# Altium schematic symbol library SYM-Passive.SchLib: 208 symbols (part 3 of 9)
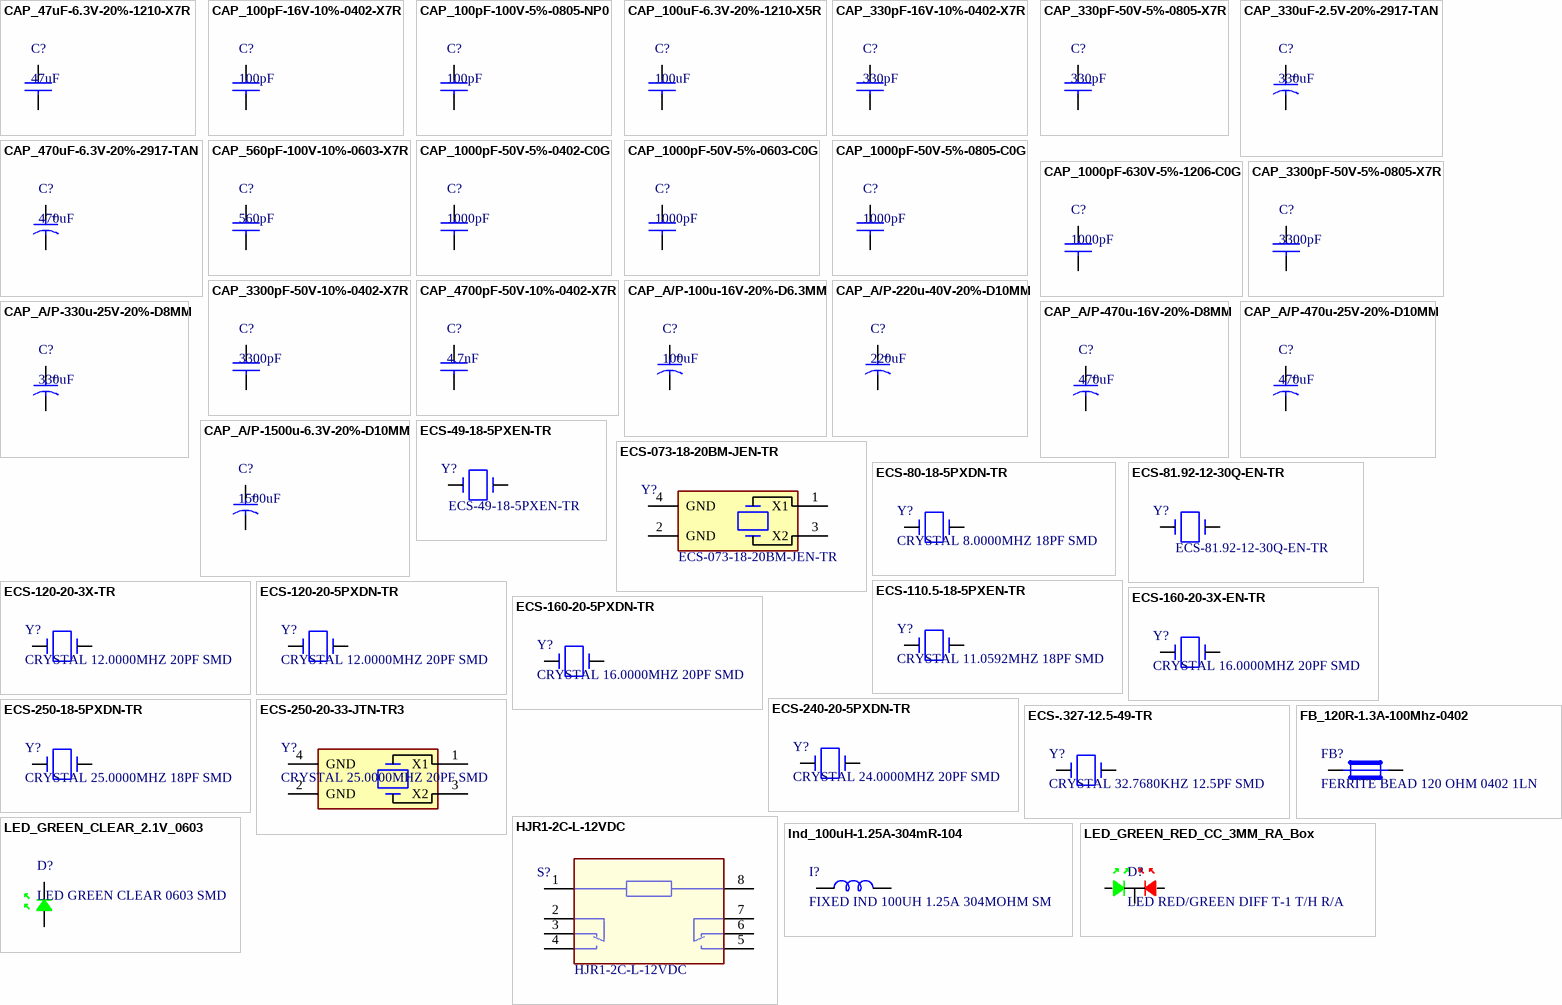
[diagram p7: symbols CAP_47uF-6.3V-20%-1210-X7R to LED_GREEN_RED_CC_3MM_RA_Box]

## CAP_3300pF-50V-5%-0805-X7R
designator C?, comment 3300pF
Cap Ceramic 0.0033uF 50V X7R 5% SMD 0805 125°C Paper T/R; Manufacturer: Samsung; Manufacturer Part Number: CL21B332JBANNNC; Capacitance: 3.3nF; Supplier 1: Digi-Key; RoHS: Yes; Category: Ceramic Capacitors; Mount: Surface Mount; Case/Package: 0805; Case Code (Metric): 2012; Case Code (Imperial): 0805; Min Operating Temperature: -55°C; Max Operating Temperature: 125°C; Tolerance: 5%; Packaging: Tape and Reel; Package Quantity: 1; Voltage Rating: 50V; Dielectric: X7R; Voltage Rating (DC): 50V; Series: CL; Construction: Flat; Length: 2mm; Width: 0.049inch; Height: 0.65mm; Thickness: 0.03inch; Depth: 1.25mm; Radiation Hardening: No; Lead Free: Lead Free; RoHS Compliant: Yes; ComponentLink1URL: https://datasheet.ciiva.com/25770/cl21b332jbannnc-25770088.pdf?src-supplier=Digi-Key; ComponentLink1Description: https://datasheet.ciiva.com/25770/cl21b332jbannnc-25770088.pdf?src-supplier=Digi-Key; Supplier Part Number 1: 1276-2501-1-ND
footprint CAPC2012X14N - 0805 (Chip Capacitor, 2-Leads, Body 2/00x1/25mm, IPC Medium Density)
footprint CAPC2012X14M - 0805 (Chip Capacitor, 2-Leads, Body 2/00x1/25mm, IPC Low Density)
footprint CAPC2012X14L - 0805 (Chip Capacitor, 2-Leads, Body 2/00x1/25mm, IPC High Density)
pins: 1, 2

## CAP_3300pF-50V-10%-0402-X7R
designator C?, comment 3300pF
Ceramic capacitor SMD-0402 3, 3nF /50V X7R# K +-10%, Samsung, RoHS; Manufacturer Part Number: CL05B332KB5NNNC; Capacitance: 3.3nF; Tolerance: 10%; Voltage Rating: 50V; Dielectric: X7R; Supplier 1: Digi-Key; Manufacturer: Samsung; RoHS: Yes; Category: Ceramic Capacitors; Pricing 1: 1=0/10000, 10=0/01500, 50=0/00820, 100=0/00670, 500=0/00482, 1000=0/00378, 2500=0/00344, 5000=0/00316 (USD); Mount: Surface Mount; Case/Package: 0402; Case Code (Metric): 1005; Case Code (Imperial): 0402; Material: Ceramic; Contact Plating: Tin; Min Operating Temperature: -55°C; Max Operating Temperature: 125°C; Package Quantity: 1; Packaging: Tape and Reel; Voltage: 50V; Voltage Rating (DC): 50V; Series: CL; Construction: Flat; Length: 1mm; Width: 0.02inch; Height: 0.5mm; Thickness: 0.022inch; Depth: 0.5mm; Radiation Hardening: No; Lead Free: Lead Free; RoHS Compliant: Yes; ComponentLink1URL: https://datasheet.ciiva.com/16396/cl05b332kb5nnnc-16396965.pdf?src-supplier=Future+Electronics; ComponentLink1Description: https://datasheet.ciiva.com/16396/cl05b332kb5nnnc-16396965.pdf?src-supplier=Future+Electronics; ComponentLink2URL: https://datasheet.ciiva.com/15195/getdatasheetpartid-358613-15195646.pdf?src-supplier=Verical; ComponentLink2Description: https://datasheet.ciiva.com/15195/getdatasheetpartid-358613-15195646.pdf?src-supplier=Verical; ComponentLink3URL: https://datasheet.ciiva.com/29198/458961-da-01-en-vs-kondensator-0402-29198316.pdf?src-supplier=Conrad; ComponentLink3Description: https://datasheet.ciiva.com/29198/458961-da-01-en-vs-kondensator-0402-29198316.pdf?src-supplier=Conrad; Supplier Part Number 1: 1276-1552-1-ND
footprint CAPC1005X07N - 0402 (Chip Capacitor, 2-Leads, Body 1/00x0/50mm, IPC Medium Density)
footprint CAPC1005X07M - 0402 (Chip Capacitor, 2-Leads, Body 1/00x0/50mm, IPC Low Density)
footprint CAPC1005X07L - 0402 (Chip Capacitor, 2-Leads, Body 1/00x0/50mm, IPC High Density)
pins: 1, 2

## CAP_4700pF-50V-10%-0402-X7R
designator C?, comment 4.7nF
Ceramic capacitor SMD-0402 4, 7nF /50V X7R# K +-10%, Samsung, RoHS; Manufacturer Part Number: CL05B472KB5NNNC; Tolerance: 10%; Voltage Rating: 50V; Dielectric: X7R; Supplier 1: Digi-Key; Manufacturer: Samsung; RoHS: Yes; Category: Ceramic Capacitors; Stock 1: 117737; Pricing 1: 1=0/10000, 10=0/02800, 50=0/01520, 100=0/01250, 500=0/00890, 1000=0/00700, 2500=0/00636, 5000=0/00585 (USD); Mount: Surface Mount; Case/Package: 0402; Case Code (Metric): 1005; Case Code (Imperial): 0402; Material: Ceramic; Min Operating Temperature: -55°C; Max Operating Temperature: 125°C; Package Quantity: 10000; Packaging: Tape and Reel; Capacitance: 4.7nF; Voltage: 50V; Voltage Rating (DC): 50V; Series: CL; Construction: Flat; Length: 1mm; Width: 0.02inch; Height: 0.5mm; Thickness: 0.022inch; Depth: 0.5mm; Radiation Hardening: No; Lead Free: Lead Free; RoHS Compliant: Yes; ComponentLink1URL: https://datasheet.ciiva.com/16199/cl05b472kb5nnnc-16199841.pdf?src-supplier=Future+Electronics; ComponentLink1Description: https://datasheet.ciiva.com/16199/cl05b472kb5nnnc-16199841.pdf?src-supplier=Future+Electronics; ComponentLink2URL: https://datasheet.ciiva.com/15195/getdatasheetpartid-359685-15195651.pdf?src-supplier=Verical; ComponentLink2Description: https://datasheet.ciiva.com/15195/getdatasheetpartid-359685-15195651.pdf?src-supplier=Verical; ComponentLink3URL: https://datasheet.ciiva.com/29198/458899-da-01-en-vs-kondensator-0402-29198308.pdf?src-supplier=Conrad; ComponentLink3Description: https://datasheet.ciiva.com/29198/458899-da-01-en-vs-kondensator-0402-29198308.pdf?src-supplier=Conrad; ComponentLink4URL: https://datasheet.ciiva.com/26309/mlcc-catalogdownload2013-eng-26309029.pdf?src-supplier=Distrelec; ComponentLink4Description: https://datasheet.ciiva.com/26309/mlcc-catalogdownload2013-eng-26309029.pdf?src-supplier=Distrelec; Supplier Part Number 1: 1276-1125-1-ND
footprint CAPC1005X07N - 0402 (Chip Capacitor, 2-Leads, Body 1/00x0/50mm, IPC Medium Density)
footprint CAPC1005X07M - 0402 (Chip Capacitor, 2-Leads, Body 1/00x0/50mm, IPC Low Density)
footprint CAPC1005X07L - 0402 (Chip Capacitor, 2-Leads, Body 1/00x0/50mm, IPC High Density)
pins: 1, 2

## CAP_A/P-100u-16V-20%-D6.3MM
designator C?, comment 100uF
Cap Aluminum Polymer 100uF 16VDC 20% (6.3 X 5.7mm) SMD 0.025 Ohm 2500mA 2000h 105C T/R; Manufacturer: KEMET; Manufacturer Part Number: A765EB107M1CLAE025; Voltage Rating: 16V; Life (Hours): 2000Hour; ESR (Equivalent Series Resistance): 25mR; Supplier 1: Digi-Key; RoHS: Yes; Category: Polymer Capacitors; Stock 1: 1455; Pricing 1: 1=0/71000, 10=0/52500, 50=0/42020, 100=0/36020, 500=0/28514 (USD); Case/Package: Radial; Min Operating Temperature: -55°C; Max Operating Temperature: 105°C; Capacitance: 100uF; Packaging: Cut Tape; Tolerance: 20%; Voltage Rating (DC): 16V; Diameter: 6.3mm; Height: 5.7mm; REACH SVHC: No SVHC; RoHS Compliant: Yes; ComponentLink1URL: https://api.kemet.com/component-edge/download/datasheet/A765EB107M1CLAE025.pdf?src-supplier=Digi-Key; ComponentLink1Description: https://api.kemet.com/component-edge/download/datasheet/A765EB107M1CLAE025.pdf?src-supplier=Digi-Key; ComponentLink2URL: http://www.kemet.com/docfinder?Partnumber=A765EB107M1CLAE025&src-supplier=Digi-Key; ComponentLink2Description: http://www.kemet.com/docfinder?Partnumber=A765EB107M1CLAE025&src-supplier=Digi-Key; ComponentLink3URL: http://www.farnell.com/datasheets/2095663.pdf?src-supplier=Element14; ComponentLink3Description: http://www.farnell.com/datasheets/2095663.pdf?src-supplier=Element14; Supplier Part Number 1: 399-13672-1-ND
footprint CAPAE7266X80N (Aluminum Electrolytic Capacitor, Body 6/65x6/65x8/00mm, IPC Medium Density)
pins: A 2, C 1
text: +

## CAP_A/P-220u-40V-20%-D10MM
designator C?, comment 220uF
Cap Aluminum Polymer 220uF 40V 20% Solder Cylindrical 22m Ohm 2200mA 2000 hr 125°C T/R; Manufacturer: KEMET; Manufacturer Part Number: A768MS227M1GLAE022; Supplier 1: Digi-Key; RoHS: Yes; Category: Polymer Capacitors; Stock 1: 2032; Pricing 1: 1=0/97000, 10=0/73900, 50=0/61420, 100=0/52890 (USD); Supplier Part Number 1: 399-A768MS227M1GLAE022CT-ND
footprint CAPAE114104X102N (Aluminum Electrolytic Capacitor, Body 10/45x10/45x10/20mm, IPC Medium Density)
pins: A 2, C 1
text: +

## CAP_A/P-330u-25V-20%-D8MM
designator C?, comment 330uF
Cap Aluminum Polymer 330uF 25V 20% Solder Cylindrical 19m Ohm 2325mA 2000 hr 125°C T/R; Manufacturer: KEMET; Manufacturer Part Number: A768KS337M1ELAE019; Supplier 1: Digi-Key; Category: Polymer Capacitors; Pricing 1: 1=0/97000, 10=0/71700, 50=0/57380, 100=0/49180 (USD); Supplier Part Number 1: 399-A768KS337M1ELAE019CT-ND
footprint CAPAE9283X102N (Aluminum Electrolytic Capacitor, Body 8/30x8/30x10/20mm, IPC Medium Density)
pins: A 2, C 1
text: +

## CAP_A/P-470u-16V-20%-D8MM
designator C?, comment 470uF
Cap Alum Poly 470UF 20% 16V SMD; Manufacturer: KEMET; Manufacturer Part Number: A768KS477M1CLAE017; Supplier 1: Digi-Key; RoHS: Yes; Category: Polymer Capacitors; Stock 1: 3844; Pricing 1: 1=0/95000, 10=0/72600, 50=0/60300, 100=0/51920 (USD); Supplier Part Number 1: 399-A768KS477M1CLAE017CT-ND
footprint CAPAE9283X102N (Aluminum Electrolytic Capacitor, Body 8/30x8/30x10/20mm, IPC Medium Density)
pins: A 2, C 1
text: +

## CAP_A/P-470u-25V-20%-D10MM
designator C?, comment 470uF
Polymer Capacitors Rohs Compliant: Yes; Manufacturer: KEMET; Manufacturer Part Number: A768MS477M1ELAE017; Supplier 1: Digi-Key; Category: Polymer Capacitors; Stock 1: 357; Pricing 1: 1=0/97000, 10=0/73500, 50=0/61040, 100=0/52570 (USD); Supplier Part Number 1: 399-A768MS477M1ELAE017CT-ND
footprint CAPAE114104X102N (Aluminum Electrolytic Capacitor, Body 10/45x10/45x10/20mm, IPC Medium Density)
pins: A 2, C 1
text: +

## CAP_A/P-1500u-6.3V-20%-D10MM
designator C?, comment 1500uF
Cap Aluminum Polymer 1500uF 6.3VDC 20% (10 X 12.6mm) SMD 0.01 Ohm 4100mA 2000h 105C T/R; Manufacturer: KEMET; Manufacturer Part Number: A765MU158M0JLAE010; Capacitance: 1.5mF; Voltage Rating: 6.3V; Life (Hours): 2000Hour; ESR (Equivalent Series Resistance): 10mR; Supplier 1: Digi-Key; RoHS: Yes; Category: Polymer Capacitors; Pricing 1: 1=1/19000, 10=0/94000, 50=0/81500, 100=0/70540 (USD); Case/Package: Radial; Min Operating Temperature: -55°C; Max Operating Temperature: 105°C; Packaging: Cut Tape; Tolerance: 20%; Voltage Rating (DC): 6.3V; Diameter: 10mm; Height: 12.6mm; REACH SVHC: No SVHC; RoHS Compliant: Yes; ComponentLink1URL: http://www.kemet.com/docfinder?Partnumber=A765MU158M0JLAE010&src-supplier=Digi-Key; ComponentLink1Description: http://www.kemet.com/docfinder?Partnumber=A765MU158M0JLAE010&src-supplier=Digi-Key; ComponentLink2URL: http://www.farnell.com/datasheets/2095656.pdf?src-supplier=Element14; ComponentLink2Description: http://www.farnell.com/datasheets/2095656.pdf?src-supplier=Element14; Supplier Part Number 1: 399-13688-1-ND
footprint CAPAE114104X102N (Aluminum Electrolytic Capacitor, Body 10/45x10/45x10/20mm, IPC Medium Density)
pins: A 2, C 1
text: +

## ECS-49-18-5PXEN-TR
designator Y?, comment Manufacturer Part Number: ECS-49-18-5PXEN-TR  (hidden comment: CRYSTAL 4.9152MHZ 18PF SMD)
Crystal 4.9152MHz ±30ppm (Tol) ±50ppm (Stability) 18pF FUND 150Ohm 2-Pin HC-49/USX SMD T/R; Manufacturer: ECS International; ESR (Equivalent Series Resistance): 150R; Supplier 1: Digi-Key; RoHS: Yes; Category: Crystals; Stock 1: 1648; Pricing 1: 1=0/70000, 10=0/58100, 50=0/52260, 100=0/46460, 500=0/44136 (USD); Mount: Surface Mount; Min Operating Temperature: -40°C; Max Operating Temperature: 85°C; Package Quantity: 1000; Frequency: 4.9152MHz; Load Capacitance: 18pF; Packaging: Tape and Reel; Tolerance: 30ppm; Frequency Tolerance: 30ppm; Frequency Stability: 50ppm; Termination: SMD/SMT; Series: CSM-7X; Length: 0.449inch; Width: 4.8mm; Height: 0.169inch; RoHS Compliant: Yes; ComponentLink1URL: https://datasheet.ciiva.com/857/csm-7x-857847.pdf?src-supplier=Digi-Key; ComponentLink1Description: https://datasheet.ciiva.com/857/csm-7x-857847.pdf?src-supplier=Digi-Key; ComponentLink2URL: https://datasheet.ciiva.com/857/csm-7x-857848.pdf?src-supplier=Digi-Key; ComponentLink2Description: https://datasheet.ciiva.com/857/csm-7x-857848.pdf?src-supplier=Digi-Key; ComponentLink3URL: https://datasheet.ciiva.com/857/csm-7x-857849.pdf?src-supplier=Digi-Key; ComponentLink3Description: https://datasheet.ciiva.com/857/csm-7x-857849.pdf?src-supplier=Digi-Key; Supplier Part Number 1: XC1682CT-ND
footprint OSC12745X40N - SMD (SMD Crystal Body 11/55x4/50x4/00mm, IPC Medium Density)
pins: 1, 2

## ECS-073-18-20BM-JEN-TR
designator Y?, comment Manufacturer Part Number: ECS-073-18-20BM-JEN-TR  (hidden comment: CRYSTAL 7.3728MHZ 18PF SMD)
Crystal 7.3728MHz ±20ppm (Tol) ±50ppm (Stability) 18pF FUND 70Ohm 4-Pin Mini-CSMD T/R; Manufacturer: ECS International; Supplier 1: Digi-Key; RoHS: Yes; Stock 1: 32174; Pricing 1: 1=1/36000, 10=1/30300, 50=1/27260, 100=1/09080, 500=1/06050 (USD); RoHS Compliant: No; Supplier Part Number 1: XC2350CT-ND
footprint LCC165P700X500X130-4N (LCC, 4-Pins, Body 7/00x5/00mmx1/30mm, Pitch 2/54mm, IPC Medium Density)
pins: 1 X1, 2 GND (power), 3 X2, 4 GND (power)

## ECS-80-18-5PXDN-TR
designator Y?, comment CRYSTAL 8.0000MHZ 18PF SMD
Crystal 8MHz ±30ppm (Tol) ±100ppm (Stability) 18pF FUND 60Ohm 2-Pin SMD T/R; Manufacturer: ECS International; Manufacturer Part Number: ECS-80-18-5PXDN-TR; ESR (Equivalent Series Resistance): 60R; Supplier 1: Digi-Key; RoHS: Yes; Category: Crystals; Stock 1: 29421; Pricing 1: 1=0/61000, 10=0/50500, 50=0/45440, 100=0/40400, 500=0/38380 (USD); Mount: Surface Mount; Min Operating Temperature: -40°C; Max Operating Temperature: 85°C; Package Quantity: 1000; Frequency: 8MHz; Load Capacitance: 18pF; Packaging: Tape and Reel; Tolerance: 30ppm; Frequency Tolerance: 30ppm; Frequency Stability: 100ppm; Termination: SMD/SMT; Series: CSM-7X-DN; Length: 0.449inch; Width: 4.8mm; Height: 0.169inch; Lead Free: Lead Free; RoHS Compliant: Yes; ComponentLink1URL: https://datasheet.ciiva.com/852/csm-7x-dn-852822.pdf?src-supplier=Digi-Key; ComponentLink1Description: https://datasheet.ciiva.com/852/csm-7x-dn-852822.pdf?src-supplier=Digi-Key; ComponentLink2URL: https://datasheet.ciiva.com/852/csm-7x-dn-852823.pdf?src-supplier=Digi-Key; ComponentLink2Description: https://datasheet.ciiva.com/852/csm-7x-dn-852823.pdf?src-supplier=Digi-Key; ComponentLink3URL: https://datasheet.ciiva.com/852/csm-7x-dn-852824.pdf?src-supplier=Digi-Key; ComponentLink3Description: https://datasheet.ciiva.com/852/csm-7x-dn-852824.pdf?src-supplier=Digi-Key; Supplier Part Number 1: XC1297CT-ND
footprint OSC12745X40N - SMD (SMD Crystal Body 11/55x4/50x4/00mm, IPC Medium Density)
pins: 1, 2

## ECS-81.92-12-30Q-EN-TR
designator Y?, comment Manufacturer Part Number: ECS-81.92-12-30Q-EN-TR  (hidden comment: CRYSTAL 8.1920MHZ 12PF SMDCRYSTAL 8.1920MHZ 12PF SMD)
Crystal 8.192MHz ±30ppm (Tol) ±50ppm (Stability) 12pF FUND 100Ohm Automotive 2-Pin Mini-CSMD T/R; Manufacturer: ECS International; Supplier 1: Digi-Key; Stock 1: 26065; Pricing 1: 1=0/92000, 10=0/81300, 50=0/76000, 100=0/67160, 500=0/63630 (USD); ComponentLink1URL: https://datasheet.octopart.com/ECS-81.92-12-30Q-EN-TR-ECS-International-datasheet-152600926.pdf?src-supplier=Master+Electronics; ComponentLink1Description: https://datasheet.octopart.com/ECS-81.92-12-30Q-EN-TR-ECS-International-datasheet-152600926.pdf?src-supplier=Master+Electronics; Supplier Part Number 1: XC3145CT-ND
footprint DFN370P500X110-2N (DFN, 2-Leads, Body 3/20x5/00mm, Pitch 3/70mm, IPC Medium Density)
pins: 1, 2

## ECS-110.5-18-5PXEN-TR
designator Y?, comment CRYSTAL 11.0592MHZ 18PF SMD
Crystal 11.0592MHz ±30ppm (Tol) ±50ppm (Stability) 18pF FUND 50Ohm 2-Pin HC-49/USX SMD T/R; Manufacturer: ECS International; Manufacturer Part Number: ECS-110.5-18-5PXEN-TR; ESR (Equivalent Series Resistance): 50R; Supplier 1: Digi-Key; RoHS: Yes; Category: Crystals; Stock 1: 1827; Pricing 1: 1=0/70000, 10=0/58100, 50=0/52260, 100=0/46460, 500=0/44136 (USD); Mount: Surface Mount; Min Operating Temperature: -40°C; Max Operating Temperature: 85°C; Package Quantity: 1000; Frequency: 11.0592MHz; Frequency Tolerance: 30ppm; Load Capacitance: 18pF; Packaging: Tape and Reel; Tolerance: 30ppm; Frequency Stability: 50ppm; Termination: SMD/SMT; Length: 0.449inch; Width: 0.189inch; Height: 0.169inch; ComponentLink1URL: https://datasheet.ciiva.com/852/csm-7x-852570.pdf?src-supplier=Digi-Key; ComponentLink1Description: https://datasheet.ciiva.com/852/csm-7x-852570.pdf?src-supplier=Digi-Key; ComponentLink2URL: https://datasheet.ciiva.com/852/csm-7x-852571.pdf?src-supplier=Digi-Key; ComponentLink2Description: https://datasheet.ciiva.com/852/csm-7x-852571.pdf?src-supplier=Digi-Key; ComponentLink3URL: https://datasheet.ciiva.com/852/csm-7x-852572.pdf?src-supplier=Digi-Key; ComponentLink3Description: https://datasheet.ciiva.com/852/csm-7x-852572.pdf?src-supplier=Digi-Key; Supplier Part Number 1: XC1691CT-ND
footprint OSC12745X40N - SMD (SMD Crystal Body 11/55x4/50x4/00mm, IPC Medium Density)
pins: 1, 2

## ECS-120-20-3X-TR
designator Y?, comment CRYSTAL 12.0000MHZ 20PF SMD
Crystal 12MHz ±30ppm (Tol) ±50ppm (Stability) 20pF FUND 60Ohm 2-Pin HC-49/USX SMD T/R; Manufacturer: ECS International; Manufacturer Part Number: ECS-120-20-3X-TR; ESR (Equivalent Series Resistance): 60R; Supplier 1: Digi-Key; RoHS: Yes; Category: Crystals; Stock 1: 25654; Pricing 1: 1=0/34000, 10=0/28800, 50=0/25880, 100=0/23000, 500=0/21850, 1000=0/18400 (USD); Mount: Surface Mount; Number of Pins: 2; Min Operating Temperature: -10°C; Max Operating Temperature: 70°C; Package Quantity: 1; Frequency: 12MHz; Load Capacitance: 20pF; Packaging: Tape and Reel; Tolerance: 30ppm; Frequency Tolerance: 30ppm; Frequency Stability: 50ppm; Termination: SMD/SMT; Length: 0.276inch; Width: 4.1mm; Height: 0.091inch; Lead Free: Lead Free; ComponentLink1URL: https://datasheet.ciiva.com/852/csm-3x-852332.pdf?src-supplier=Digi-Key; ComponentLink1Description: https://datasheet.ciiva.com/852/csm-3x-852332.pdf?src-supplier=Digi-Key; ComponentLink2URL: https://datasheet.ciiva.com/852/csm-3x-852333.pdf?src-supplier=Digi-Key; ComponentLink2Description: https://datasheet.ciiva.com/852/csm-3x-852333.pdf?src-supplier=Digi-Key; ComponentLink3URL: https://datasheet.ciiva.com/852/csm-3x-852331.pdf?src-supplier=Digi-Key; ComponentLink3Description: https://datasheet.ciiva.com/852/csm-3x-852331.pdf?src-supplier=Digi-Key; Supplier Part Number 1: XC1770CT-ND
footprint OSC76X40N - SMD
pins: 1, 2

## ECS-120-20-5PXDN-TR
designator Y?, comment CRYSTAL 12.0000MHZ 20PF SMD
Crystal 12MHz ±30ppm (Tol) ±100ppm (Stability) 20pF FUND 50Ohm 2-Pin SMD T/R; Manufacturer: ECS International; Manufacturer Part Number: ECS-120-20-5PXDN-TR; ESR (Equivalent Series Resistance): 50R; Supplier 1: Digi-Key; RoHS: Yes; Category: Crystals; Stock 1: 118838; Pricing 1: 1=0/61000, 10=0/50500, 50=0/45440, 100=0/40400, 500=0/38380 (USD); Mount: Surface Mount; Min Operating Temperature: -40°C; Max Operating Temperature: 85°C; Package Quantity: 1000; Frequency: 12MHz; Frequency Tolerance: 30ppm; Load Capacitance: 20pF; Packaging: Tape and Reel; Tolerance: 30ppm; Frequency Stability: 100ppm; Termination: SMD/SMT; Series: CSM-7X-DN; Length: 0.449inch; Width: 0.189inch; Height: 0.169inch; Lead Free: Lead Free; RoHS Compliant: Yes; ComponentLink1URL: https://datasheet.ciiva.com/852/csm-7x-dn-852844.pdf?src-supplier=Digi-Key; ComponentLink1Description: https://datasheet.ciiva.com/852/csm-7x-dn-852844.pdf?src-supplier=Digi-Key; ComponentLink2URL: https://datasheet.ciiva.com/852/csm-7x-dn-852843.pdf?src-supplier=Digi-Key; ComponentLink2Description: https://datasheet.ciiva.com/852/csm-7x-dn-852843.pdf?src-supplier=Digi-Key; ComponentLink3URL: https://datasheet.ciiva.com/852/csm-7x-dn-852845.pdf?src-supplier=Digi-Key; ComponentLink3Description: https://datasheet.ciiva.com/852/csm-7x-dn-852845.pdf?src-supplier=Digi-Key; Supplier Part Number 1: XC1298CT-ND
footprint OSC12745X40N - SMD (SMD Crystal Body 11/55x4/50x4/00mm, IPC Medium Density)
pins: 1, 2

## ECS-160-20-3X-EN-TR
designator Y?, comment CRYSTAL 16.0000MHZ 20PF SMD
Crystal 16MHz ±30ppm (Tol) ±50ppm (Stability) 20pF FUND 50Ohm 2-Pin HC-49/USX SMD T/R; Manufacturer: ECS International; Manufacturer Part Number: ECS-160-20-3X-EN-TR; ESR (Equivalent Series Resistance): 50R; Supplier 1: Digi-Key; RoHS: Yes; Category: Crystals; Stock 1: 47482; Pricing 1: 1=0/42000, 10=0/35000, 50=0/31500, 100=0/28000, 500=0/26600, 1000=0/22400 (USD); Mount: Surface Mount; Min Operating Temperature: -40°C; Max Operating Temperature: 85°C; Package Quantity: 1; Frequency: 16MHz; Frequency Tolerance: 30ppm; Load Capacitance: 20pF; Packaging: Tape and Reel; Tolerance: 30ppm; Frequency Stability: 50ppm; Termination: SMD/SMT; Series: CSM-3X; Length: 0.276inch; Width: 0.161inch; Height: 0.091inch; Lead Free: Lead Free; ComponentLink1URL: https://datasheet.ciiva.com/852/csm-3x-852506.pdf?src-supplier=Digi-Key; ComponentLink1Description: https://datasheet.ciiva.com/852/csm-3x-852506.pdf?src-supplier=Digi-Key; ComponentLink2URL: https://datasheet.ciiva.com/852/csm-3x-852507.pdf?src-supplier=Digi-Key; ComponentLink2Description: https://datasheet.ciiva.com/852/csm-3x-852507.pdf?src-supplier=Digi-Key; ComponentLink3URL: https://datasheet.ciiva.com/852/csm-3x-852508.pdf?src-supplier=Digi-Key; ComponentLink3Description: https://datasheet.ciiva.com/852/csm-3x-852508.pdf?src-supplier=Digi-Key; Supplier Part Number 1: XC1793CT-ND
footprint OSC76X40N - SMD
pins: 1, 2

## ECS-160-20-5PXDN-TR
designator Y?, comment CRYSTAL 16.0000MHZ 20PF SMD
Crystal 16MHz ±30ppm (Tol) ±100ppm (Stability) 20pF FUND 40Ohm 2-Pin SMD; Manufacturer: ECS International; Manufacturer Part Number: ECS-160-20-5PXDN-TR; ESR (Equivalent Series Resistance): 40R; Supplier 1: Digi-Key; RoHS: Yes; Category: Crystals; Stock 1: 47009; Pricing 1: 1=0/61000, 10=0/50500, 50=0/45440, 100=0/40400, 500=0/38380 (USD); Mount: Surface Mount; Min Operating Temperature: -40°C; Max Operating Temperature: 85°C; Frequency Stability: 100ppm; Termination: SMD/SMT; Package Quantity: 1000; Frequency: 16MHz; Frequency Tolerance: 30ppm; Load Capacitance: 20pF; Packaging: Tape and Reel; Tolerance: 30ppm; Length: 0.449inch; Width: 0.189inch; Height: 0.169inch; Lead Free: Lead Free; ComponentLink1URL: https://datasheet.ciiva.com/852/csm-7x-dn-852855.pdf?src-supplier=Digi-Key; ComponentLink1Description: https://datasheet.ciiva.com/852/csm-7x-dn-852855.pdf?src-supplier=Digi-Key; ComponentLink2URL: https://datasheet.ciiva.com/852/csm-7x-dn-852856.pdf?src-supplier=Digi-Key; ComponentLink2Description: https://datasheet.ciiva.com/852/csm-7x-dn-852856.pdf?src-supplier=Digi-Key; ComponentLink3URL: https://datasheet.ciiva.com/852/csm-7x-dn-852857.pdf?src-supplier=Digi-Key; ComponentLink3Description: https://datasheet.ciiva.com/852/csm-7x-dn-852857.pdf?src-supplier=Digi-Key; Supplier Part Number 1: XC1299CT-ND
footprint OSC12745X40N - SMD (SMD Crystal Body 11/55x4/50x4/00mm, IPC Medium Density)
pins: 1, 2

## ECS-240-20-5PXDN-TR
designator Y?, comment CRYSTAL 24.0000MHZ 20PF SMD
Crystal 24MHz ±30ppm (Tol) ±100ppm (Stability) 20pF FUND 30Ohm 2-Pin SMD T/R; Manufacturer: ECS International; Manufacturer Part Number: ECS-240-20-5PXDN-TR; ESR (Equivalent Series Resistance): 30R; Supplier 1: Digi-Key; RoHS: Yes; Category: Crystals; Stock 1: 7002; Pricing 1: 1=0/61000, 10=0/50500, 50=0/45440, 100=0/40400, 500=0/38380 (USD); Mount: Surface Mount; Min Operating Temperature: -40°C; Max Operating Temperature: 85°C; Frequency: 24MHz; Package Quantity: 1000; Frequency Tolerance: 30ppm; Load Capacitance: 20pF; Packaging: Tape and Reel; Tolerance: 30ppm; Frequency Stability: 100ppm; Termination: SMD/SMT; Length: 0.449inch; Width: 0.189inch; Height: 0.169inch; Lead Free: Lead Free; ComponentLink1URL: https://datasheet.ciiva.com/852/csm-7x-dn-852873.pdf?src-supplier=Digi-Key; ComponentLink1Description: https://datasheet.ciiva.com/852/csm-7x-dn-852873.pdf?src-supplier=Digi-Key; ComponentLink2URL: https://datasheet.ciiva.com/852/csm-7x-dn-852874.pdf?src-supplier=Digi-Key; ComponentLink2Description: https://datasheet.ciiva.com/852/csm-7x-dn-852874.pdf?src-supplier=Digi-Key; ComponentLink3URL: https://datasheet.ciiva.com/852/csm-7x-dn-852875.pdf?src-supplier=Digi-Key; ComponentLink3Description: https://datasheet.ciiva.com/852/csm-7x-dn-852875.pdf?src-supplier=Digi-Key; Supplier Part Number 1: XC1303CT-ND
footprint OSC12745X40N - SMD (SMD Crystal Body 11/55x4/50x4/00mm, IPC Medium Density)
pins: 1, 2

## ECS-250-18-5PXDN-TR
designator Y?, comment CRYSTAL 25.0000MHZ 18PF SMD
Crystal 25MHz ±30ppm (Tol) ±100ppm (Stability) 18pF FUND 30Ohm 2-Pin SMD T/R; Manufacturer: ECS International; Manufacturer Part Number: ECS-250-18-5PXDN-TR; ESR (Equivalent Series Resistance): 30R; Supplier 1: Digi-Key; RoHS: Yes; Category: Crystals; Stock 1: 9927; Pricing 1: 1=0/61000, 10=0/50500, 50=0/45440, 100=0/40400, 500=0/38380 (USD); Mount: Surface Mount; Min Operating Temperature: -40°C; Max Operating Temperature: 85°C; Package Quantity: 1000; Frequency: 25MHz; Frequency Tolerance: 30ppm; Load Capacitance: 18pF; Packaging: Tape and Reel; Tolerance: 30ppm; Frequency Stability: 100ppm; Termination: SMD/SMT; Length: 13.2mm; Width: 4.8mm; Height: 4.3mm; ComponentLink1URL: https://datasheet.ciiva.com/858/csm-7x-858596.pdf?src-supplier=Digi-Key; ComponentLink1Description: https://datasheet.ciiva.com/858/csm-7x-858596.pdf?src-supplier=Digi-Key; ComponentLink2URL: https://datasheet.ciiva.com/858/csm-7x-858597.pdf?src-supplier=Digi-Key; ComponentLink2Description: https://datasheet.ciiva.com/858/csm-7x-858597.pdf?src-supplier=Digi-Key; ComponentLink3URL: https://datasheet.ciiva.com/858/csm-7x-858598.pdf?src-supplier=Digi-Key; ComponentLink3Description: https://datasheet.ciiva.com/858/csm-7x-858598.pdf?src-supplier=Digi-Key; Supplier Part Number 1: XC1833CT-ND
footprint OSC12745X40N - SMD (SMD Crystal Body 11/55x4/50x4/00mm, IPC Medium Density)
pins: 1, 2

## ECS-250-20-33-JTN-TR3
designator Y?, comment CRYSTAL 25.0000MHZ 20PF SMD
25 MHz ±20ppm Crystal 20pF 40 Ohms 4-SMD, No Lead; Manufacturer: ECS International; Manufacturer Part Number: ECS-250-20-33-JTN-TR3; Supplier 1: Digi-Key; RoHS: No; Category: Uncategorized; Stock 1: 8453; Pricing 1: 1=0/42000, 10=0/35000, 50=0/31500, 100=0/28000, 500=0/26600, 1000=0/22400 (USD); Supplier Part Number 1: 50-ECS-250-20-33-JTN-TR3CT-ND
footprint LCC165P320X250X80-4N (LCC, 4-Pins, Body 3/20x2/50mmx0/80mm, Pitch 1/65mm, IPC Medium Density)
pins: 1 X1, 2 GND (power), 3 X2, 4 GND (power)

## ECS-.327-12.5-49-TR
designator Y?, comment CRYSTAL 32.7680KHZ 12.5PF SMD
Crystal 0.032768MHz ±20ppm (Tol) 12.5pF Flexural 70000Ohm 2-Pin Ultra Mini-CSMD T/R; Manufacturer: ECS International; Manufacturer Part Number: ECS-.327-12.5-49-TR; Supplier 1: Digi-Key; RoHS: Yes; Stock 1: 1742; Pricing 1: 1=1/20000, 10=1/06300, 50=0/99320, 100=0/87780, 500=0/83160, 1000=0/69300 (USD); Supplier Part Number 1: XC2741CT-ND
footprint DFN340P410X90-2N (DFN, 2-Leads, Body 1/50x4/10mm, Pitch 3/40mm, IPC Medium Density)
pins: 1, 2

## FB_120R-1.3A-100Mhz-0402
designator FB?, comment FERRITE BEAD 120 OHM 0402 1LN
Ferrite Beads Multi-Layer 120Ohm 25% 100MHz 1.3A 90mOhm DCR 0402 Paper T/R; Manufacturer: Murata; Manufacturer Part Number: BLM15PD121SN1D; Material: Steel,Ferrite; Impedance: 120R; Number of Lines: 1; DC Resistance (DCR): 90mR; Supplier 1: Digi-Key; RoHS: Yes; Category: Inductors; Stock 1: 628892; Pricing 1: 1=0/10000, 10=0/07300, 25=0/06600, 50=0/05940, 100=0/04360, 250=0/03168, 500=0/02904, 1000=0/02508, 5000=0/01980 (USD); Case/Package: 0402; Number of Pins: 2; Core Material: Ferrite; Case Code (Metric): 1005; Case Code (Imperial): 0402; Min Operating Temperature: -55°C; Max Operating Temperature: 125°C; Package Quantity: 1; Packaging: Tape and Reel; Series: BLM15PD; Tolerance: 25%; Current Rating: 1.3A; Max Current Rating: 1.3A; Termination: SMD/SMT; Max DC Current: 1.3A; Test Frequency: 100MHz; DC Current: 1.3A; Number of Circuits: 1; DC Resistance-Max: 90mR; Length: 1mm; Width: 0.5mm; Height: 0.5mm; Depth: 0.55mm; Radiation Hardening: No; REACH SVHC: No SVHC; Military Standard: Not; Lead Free: Lead Free; RoHS Compliant: Yes; ComponentLink1URL: https://datasheet.ciiva.com/18093/getdatasheetpartid-195858-18093157.pdf?src-supplier=Verical; ComponentLink1Description: https://datasheet.ciiva.com/18093/getdatasheetpartid-195858-18093157.pdf?src-supplier=Verical; ComponentLink2URL: https://datasheet.ciiva.com/11800/0900766b811b5866-11800860.pdf?src-supplier=RSComponents; ComponentLink2Description: https://datasheet.ciiva.com/11800/0900766b811b5866-11800860.pdf?src-supplier=RSComponents; ComponentLink3URL: https://datasheet.ciiva.com/41425/001171686-da-01-en-chip-drossel0402-120r-1300ma-1-0x0-5mm-41425776.pdf?src-supplier=Conrad; ComponentLink3Description: https://datasheet.ciiva.com/41425/001171686-da-01-en-chip-drossel0402-120r-1300ma-1-0x0-5mm-41425776.pdf?src-supplier=Conrad; ComponentLink4URL: https://datasheet.ciiva.com/41449/001172205-da-01-en-drossel-0402-120r-11-0x0-5mm-10000st-41449495.pdf?src-supplier=Conrad; ComponentLink4Description: https://datasheet.ciiva.com/41449/001172205-da-01-en-drossel-0402-120r-11-0x0-5mm-10000st-41449495.pdf?src-supplier=Conrad; ComponentLink5URL: https://datasheet.ciiva.com/1012/l0110e-1012436.pdf?src-supplier=Digi-Key; ComponentLink5Description: https://datasheet.ciiva.com/1012/l0110e-1012436.pdf?src-supplier=Digi-Key; ComponentLink6URL: https://datasheet.ciiva.com/1012/l0110e-1012434.pdf?src-supplier=Digi-Key; ComponentLink6Description: https://datasheet.ciiva.com/1012/l0110e-1012434.pdf?src-supplier=Digi-Key; ComponentLink7URL: https://datasheet.ciiva.com/1012/l0110e-1012435.pdf?src-supplier=Digi-Key; ComponentLink7Description: https://datasheet.ciiva.com/1012/l0110e-1012435.pdf?src-supplier=Digi-Key; Supplier Part Number 1: 490-5203-1-ND
footprint INDC1005X05L - 0402 (Chip Inductor, 2-Leads, Body 1/00x0/50mm, IPC High Density)
pins: 1, 2

## HJR1-2C-L-12VDC
designator S?
Manufacturer Part Number: HJR1-2C-L-12VDC
footprint HJR1-2C-L-12VDC_TBO
pins: 1, 2, 3, 4, 5, 6, 7, 8

## Ind_100uH-1.25A-304mR-104
designator I?, comment FIXED IND 100UH 1.25A 304MOHM SM
PF0560 SMT Shielded Drum Core Inductor series, up to 6.5A; Manufacturer: Pulse; Manufacturer Part Number: PF0560.104NL; Saturation Current: 1.35A; DC Resistance (DCR): 304mR; Self Resonant Frequency: 6.6MHz; Test Frequency: 100kHz; Tolerance: 25%; Supplier 1: Digi-Key; RoHS: Yes; Category: Fixed Inductors; Stock 1: 628; Pricing 1: 1=1/66000, 10=1/53000, 25=1/40240, 40=1/19850, 90=1/07100, 270=0/91800, 450=0/86700, 990=0/79051, 2430=0/76500 (USD); Mount: Surface Mount; Case/Package: Nonstandard; Min Operating Temperature: -40°C; Max Operating Temperature: 125°C; Packaging: Tray; Resistor Type: Wirewound; Inductance: 100uH; Current Rating: 1.25A; Shielding: Shielded; Length: 0.409inch; Width: 0.406inch; Height - Seated (Max): 0.157inch; RoHS Compliant: Yes; Supplier Part Number 1: 553-3048-ND
footprint INDP100100X40N (Precision Wire Wound Inductor, 2-Leads, Body 10/00x10/00mm, IPC Medium Density)
pins: 1, 2

## LED_GREEN_CLEAR_2.1V_0603
designator D?, comment LED GREEN CLEAR 0603 SMD
LED Uni-Color Green 565nm 2-Pin Chip 0603(1608Metric) T/R; Manufacturer: Everlight; Manufacturer Part Number: QTLP601C4TR; Lens Color: Colorless; Viewing Angle: 120°; Lens Style: Diffused,Colorless,Rectangular; Luminous Intensity: 15mcd; Forward Current: 20mA; Forward Voltage: 2.1V; Dominant Wavelength: 570nm; Number of Elements: 1; Power Dissipation: 84mW; Reverse Voltage: 5V; Supplier 1: Digi-Key; RoHS: Yes; Category: LEDs; Stock 1: 36953; Pricing 1: 1=0/34000, 10=0/27100, 100=0/12160, 500=0/10982, 1000=0/09021 (USD); Mount: Surface Mount; Case/Package: 0603; Number of Pins: 2; Color: Green; Case Code (Metric): 1608; Case Code (Imperial): 0603; Min Operating Temperature: -40°C; Max Operating Temperature: 85°C; Package Quantity: 1; Packaging: Tape and Reel; Illumination Color: Green; Test Current: 20mA; Lens Transparency: Clear; Number of LEDs: 1; Series: -; Length: 1.6mm; Width: 0.8mm; Height: 0.6mm; Depth: 0.9mm; Radiation Hardening: No; Lead Free: Lead Free; RoHS Compliant: Yes; ComponentLink1URL: https://datasheet.ciiva.com/2112/qtlp601c-2-3-4-7-b-2112823.pdf?src-supplier=Digi-Key; ComponentLink1Description: https://datasheet.ciiva.com/2112/qtlp601c-2-3-4-7-b-2112823.pdf?src-supplier=Digi-Key; ComponentLink2URL: https://datasheet.ciiva.com/2112/qtlp601c-2-3-4-7-b-2112824.pdf?src-supplier=Digi-Key; ComponentLink2Description: https://datasheet.ciiva.com/2112/qtlp601c-2-3-4-7-b-2112824.pdf?src-supplier=Digi-Key; ComponentLink3URL: https://datasheet.ciiva.com/2112/qtlp601c-2-3-4-7-b-2112825.pdf?src-supplier=Digi-Key; ComponentLink3Description: https://datasheet.ciiva.com/2112/qtlp601c-2-3-4-7-b-2112825.pdf?src-supplier=Digi-Key; Supplier Part Number 1: 1080-1405-1-ND
footprint LED-G-C1508X06N - 0603 (Chip LED, 2-Leads, Body 1/50x0/75mm, IPC Medium Density)
pins: A, C K

## LED_GREEN_RED_CC_3MM_RA_Box
designator D?, comment LED RED/GREEN DIFF T-1 T/H R/A
footprint LED-RED_GREEN-12.5x7x6
pins: 1 A2, 2 C, 3 A1

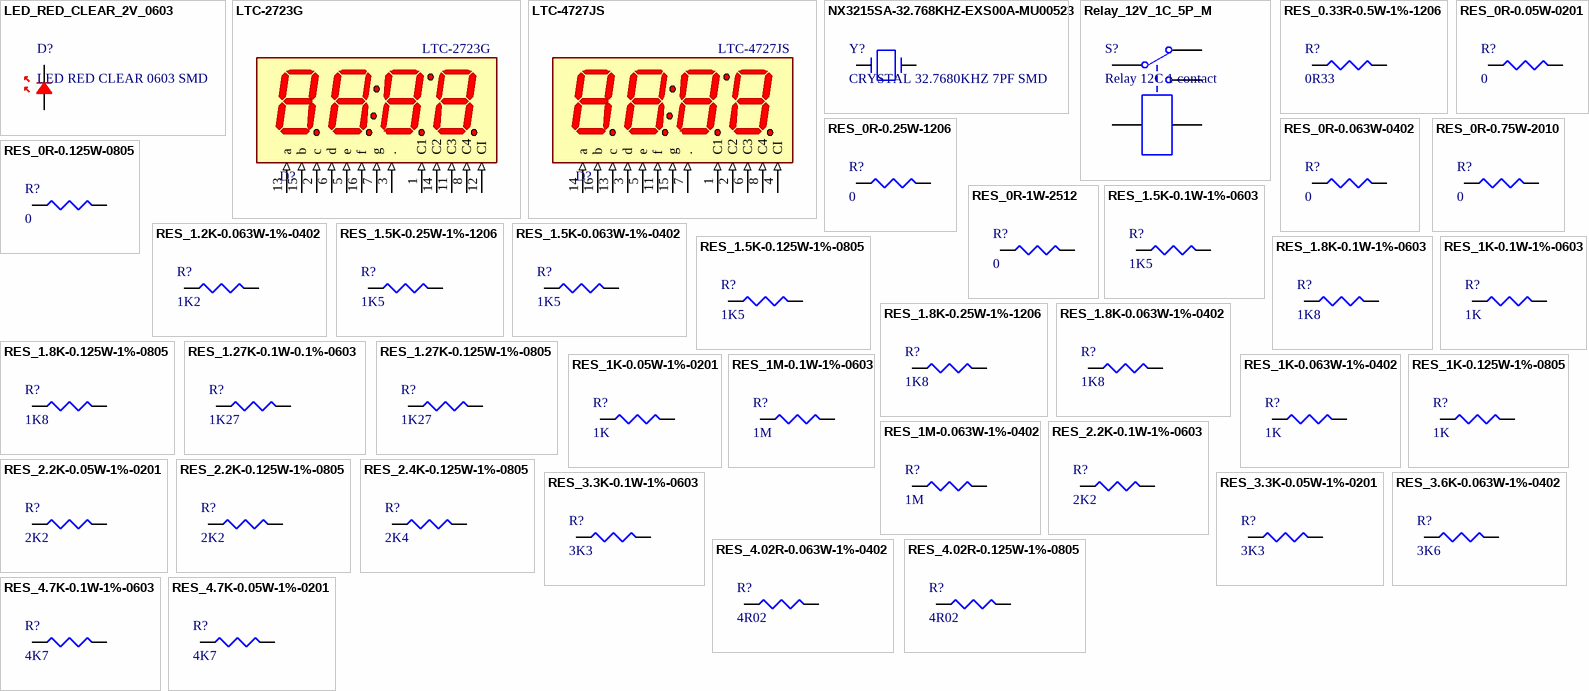
[diagram p2: symbols LED_RED_CLEAR_2V_0603 to RES_4.7K-0.05W-1%-0201]

## LED_RED_CLEAR_2V_0603
designator D?, comment LED RED CLEAR 0603 SMD
LED Uni-Color Red 630nm 2-Pin SMD T/R; Manufacturer: Everlight; Manufacturer Part Number: QTLP601CRTR; Lens Color: Colorless; Viewing Angle: 120°; Lens Style: Diffused,Colorless,Rectangular; Forward Current: 20mA; Forward Voltage: 2V; Luminous Intensity: 35mcd; Dominant Wavelength: 624nm; Number of LEDs: 1; Supplier 1: Digi-Key; RoHS: Yes; Category: LEDs; Stock 1: 1417; Pricing 1: 1=0/36000, 10=0/19500, 100=0/09060, 500=0/08364, 1000=0/06551 (USD); Mount: Surface Mount; Case/Package: 0603; Number of Pins: 2; Color: Red; Case Code (Metric): 1608; Case Code (Imperial): 0603; Min Operating Temperature: -40°C; Max Operating Temperature: 85°C; Packaging: Tape and Reel; Package Quantity: 2000; Illumination Color: Red; Test Current: 20mA; Lens Transparency: Clear; Series: -; Length: 1.6mm; Width: 0.8mm; Height: 0.6mm; Radiation Hardening: No; RoHS Compliant: Yes; ComponentLink1URL: https://datasheet.ciiva.com/2112/qtlp601c-r-y-ib-e-ag-o-ig-2112805.pdf?src-supplier=Digi-Key; ComponentLink1Description: https://datasheet.ciiva.com/2112/qtlp601c-r-y-ib-e-ag-o-ig-2112805.pdf?src-supplier=Digi-Key; ComponentLink2URL: https://datasheet.ciiva.com/2112/qtlp601c-r-y-ib-e-ag-o-ig-2112806.pdf?src-supplier=Digi-Key; ComponentLink2Description: https://datasheet.ciiva.com/2112/qtlp601c-r-y-ib-e-ag-o-ig-2112806.pdf?src-supplier=Digi-Key; ComponentLink3URL: https://datasheet.ciiva.com/2112/qtlp601c-r-y-ib-e-ag-o-ig-2112807.pdf?src-supplier=Digi-Key; ComponentLink3Description: https://datasheet.ciiva.com/2112/qtlp601c-r-y-ib-e-ag-o-ig-2112807.pdf?src-supplier=Digi-Key; Supplier Part Number 1: 1080-1407-1-ND
footprint LED-R-C1508X06N - 0603 (Chip LED, 2-Leads, Body 1/50x0/75mm, IPC Medium Density)
pins: A, C K

## LTC-2723G
designator D?, comment Manufacturer Part Number: LTC-2723G  (hidden comment: DISP 7SEG 0.28" QUAD GRN 16DIP)
Displays Segmented Panel 4DIGIT 36LED Green CC 16-Pin PDIP; Manufacturer: Vishay Lite-On; Luminous Intensity: 2mcd; Operating Supply Voltage: 2.1V; Wavelength: 569nm; Element Configuration: Common Cathode; Forward Current: 25mA; Max Power Dissipation: 75mW; Test Current: 10mA; Number of Elements: 36; Number of Characters: 4; Reverse Voltage: 5V; Viewing Area (height): 7mm; Viewing Area Length: 4.85mm; Supplier 1: Digi-Key; RoHS: Yes; Category: LED Displays; Stock 1: 281; Pricing 1: 1=3/66000, 10=2/58500, 100=2/11700 (USD); Mount: Through Hole; Case/Package: PDIP; Number of Pins: 15; Color: Green; Min Operating Temperature: -35°C; Max Operating Temperature: 85°C; Packaging: Rail/Tube; Forward Voltage: 2.1V; Package Quantity: 16; Illumination Color: Green; Dominant Wavelength: 569nm; Power Dissipation: 75mW; Display Type: Segment; Power Consumption: 75mW; Length: 30.26mm; Width: 1.191inch; Height: 0.394inch; Depth: 10mm; Radiation Hardening: No; Lead Free: Lead Free; RoHS Compliant: Yes; ComponentLink1URL: https://datasheet.ciiva.com/15218/getdatasheetpartid-324904-15218828.pdf?src-supplier=Verical; ComponentLink1Description: https://datasheet.ciiva.com/15218/getdatasheetpartid-324904-15218828.pdf?src-supplier=Verical; Supplier Part Number 1: LTC-2723G-ND
footprint LTC-2723G - 0.28inch-Clock
pins: 1 C1 (in), 2 c (in), 3 . (in), 5 e (in), 6 d (in), 7 g (in), 8 C4 (in), 11 C3 (in), 12 CI (in), 13 a (in), 14 C2 (in), 15 b (in), 16 f (in)

## LTC-4727JS
designator D?, comment Manufacturer Part Number: LTC-4727JS  (hidden comment: DISP 7SEG 0.39" QUAD YLW 16DIP)
Displays Segmented Panel 4DIGIT 35LED Yellow CC 16-Pin DIP; Manufacturer: Vishay Lite-On; Max Power Dissipation: 40mW; Element Configuration: Common Cathode; Forward Current: 25mA; Forward Voltage: 2.05V; Wavelength: 587nm; Test Current: 1mA; Luminous Intensity: 0.65mcd; Viewing Area (height): 10mm; Viewing Area Length: 6mm; Supplier 1: Digi-Key; RoHS: No; Category: LED Displays; Stock 1: 1718; Pricing 1: 1=3/92000, 10=2/77200, 100=2/27040, 500=1/91400, 1000=1/75560, 2000=1/68300, 5000=1/65000 (USD); Case/Package: DIP; Number of Pins: 16; Color: Yellow; Min Operating Temperature: -35°C; Max Operating Temperature: 85°C; Package Quantity: 12; Illumination Color: Yellow; Operating Supply Voltage: 2.05V; Packaging: Rail/Tube; Power Consumption: 40mW; Dominant Wavelength: 587nm; Display Type: Segment; Length: 1.58inch; Width: 0.5inch; Height: 0.28inch; RoHS Compliant: No; ComponentLink1URL: https://datasheet.ciiva.com/2103/ltc-4727js-2103716.pdf?src-supplier=Digi-Key; ComponentLink1Description: https://datasheet.ciiva.com/2103/ltc-4727js-2103716.pdf?src-supplier=Digi-Key; Supplier Part Number 1: 160-1547-5-ND
footprint LTC-4727JS - 0.4inch-Clock
pins: 1 C1 (in), 2 C2 (in), 3 d (in), 4 CI (in), 5 e (in), 6 C3 (in), 7 . (in), 8 C4 (in), 11 f (in), 13 c (in), 14 a (in), 15 g (in), 16 b (in)

## NX3215SA-32.768KHZ-EXS00A-MU00523
designator Y?, comment CRYSTAL 32.7680KHZ 7PF SMD
32.768 kHz Crystal 7pF 70 kOhms 2-SMD, No Lead; Manufacturer: NDK; Manufacturer Part Number: NX3215SA-32.768KHZ-EXS00A-MU00523; Supplier 1: Digi-Key; RoHS: No; Pricing 1: 1=0/79000, 10=0/65400, 50=0/58900, 100=0/52360, 500=0/49742, 1000=0/41888 (USD); Supplier Part Number 1: 644-1385-1-ND
footprint DFN240P320X90-2N (DFN, 2-Leads, Body 1/50x3/20mm, Pitch 2/40mm, IPC Medium Density)
pins: 1, 2

## Relay_12V_1C_5P_M
designator S?, comment Relay 12C 1 contact
footprint Relay - JQC-3F(T73) - 5V
pins: 1, 2, 3, 4, 5

## RES_0.33R-0.5W-1%-1206
designator R?, comment 0R33
Current Sensor-Low TCR Chip Resistor Thick Film 1206 330mOhm 1% Paper T/R; Manufacturer: Yageo; Manufacturer Part Number: PT1206FR-7W0R33L; Max Power Dissipation: 500mW; Temperature Coefficient: 75ppm/°C; Resistance: 330mR; Supplier 1: Digi-Key; RoHS: Yes; Category: Chip SMD Resistors; Stock 1: 14500; Pricing 1: 1=0/41000, 10=0/31800, 25=0/24200, 50=0/17980, 100=0/13370, 250=0/11292, 500=0/09678, 1000=0/07374 (USD); Case/Package: 1206; Min Operating Temperature: -55°C; Max Operating Temperature: 155°C; Tolerance: 1%; Packaging: Tape and Reel; Resistor Type: Thick Film; Number of Terminations: 2; Features: Moisture Resistant,Automotive AEC-Q200; Length: 0.122inch; Width: 0.063inch; Height: 0.026inch; ComponentLink1URL: http://www.mouser.com/ds/2/447/yageodocoutput-1101729.pdf?src-supplier=Mouser; ComponentLink1Description: http://www.mouser.com/ds/2/447/yageodocoutput-1101729.pdf?src-supplier=Mouser; ComponentLink2URL: http://www.yageo.com/NewPortal/_en/search/productDocs.jsp?YageoPartNumber=PT1206FR-7W0R33L&src-supplier=Digi-Key; ComponentLink2Description: http://www.yageo.com/NewPortal/_en/search/productDocs.jsp?YageoPartNumber=PT1206FR-7W0R33L&src-supplier=Digi-Key; ComponentLink3URL: http://www.yageo.com/exep/pages/download/literatures/R-chip_current%20sensor_20140512.pdf?src-supplier=Digi-Key; ComponentLink3Description: http://www.yageo.com/exep/pages/download/literatures/R-chip_current%20sensor_20140512.pdf?src-supplier=Digi-Key; Supplier Part Number 1: YAG5803CT-ND
footprint RESC3116X06N - 1206 (Chip Resistor, 2-Leads, Body 3/10x1/60mm, IPC Medium Density)
footprint RESC3116X06M - 1206 (Chip Resistor, 2-Leads, Body 3/10x1/60mm, IPC Low Density)
footprint RESC3116X06L - 1206 (Chip Resistor, 2-Leads, Body 3/10x1/60mm, IPC High Density)
pins: 1, 2

## RES_0R-0.05W-0201
designator R?, comment 0
Res Jumper Thick Film 0201 0 Ohm 5% 1/20W Molded SMD Paper T/R; Manufacturer: Yageo; Manufacturer Part Number: RC0201JR-070RL; Resistance: 0R; Power Rating: 50mW; Voltage Rating: 25V; Supplier 1: Digi-Key; RoHS: Yes; Category: Chip SMD Resistors; Stock 1: 9259107; Pricing 1: 1=0/10000, 10=0/03600, 25=0/02640, 50=0/02000, 100=0/01480, 250=0/01128, 500=0/00904, 1000=0/00665, 5000=0/00477 (USD); Case/Package: 0201; Case Code (Metric): 0603; Case Code (Imperial): 0201; Weight: 6E-06oz; Contact Plating: Tin,Matte; Size Code: 0201; Min Operating Temperature: -55°C; Max Operating Temperature: 125°C; Packaging: Tape and Reel; Tolerance: 5%; Package Quantity: 10000; Resistor Type: Thick Film; Number of Terminations: 2; Termination: SMD/SMT; Max Power Dissipation: 50mW; Voltage Rating (DC): 25V; Features: Moisture Resistant; Series: RC; Construction: Rectangular; Resistance Tolerance: 5%; Length: 0.6mm; Width: 0.012inch; Height: 0.01inch; Depth: 0.3mm; Radiation Hardening: No; REACH SVHC: Unknown; Military Standard: Not; Lead Free: Lead Free; RoHS Compliant: Yes; ComponentLink1URL: https://datasheet.ciiva.com/8896/pyu-rc0201-51-rohs-l-8-8896143.pdf?src-supplier=Avnet; ComponentLink1Description: https://datasheet.ciiva.com/8896/pyu-rc0201-51-rohs-l-8-8896143.pdf?src-supplier=Avnet; ComponentLink2URL: https://datasheet.ciiva.com/7660/1421516-7660808.pdf?src-supplier=Element14; ComponentLink2Description: https://datasheet.ciiva.com/7660/1421516-7660808.pdf?src-supplier=Element14; ComponentLink3URL: https://datasheet.ciiva.com/7672/1563626-7672247.pdf?src-supplier=Element14; ComponentLink3Description: https://datasheet.ciiva.com/7672/1563626-7672247.pdf?src-supplier=Element14; ComponentLink4URL: https://datasheet.ciiva.com/7672/1563626-7672248.pdf?src-supplier=Element14; ComponentLink4Description: https://datasheet.ciiva.com/7672/1563626-7672248.pdf?src-supplier=Element14; ComponentLink5URL: https://datasheet.ciiva.com/28419/pyu-rc0201-51-rohs-l-8-28419660.pdf?src-supplier=Avnet+Europe; ComponentLink5Description: https://datasheet.ciiva.com/28419/pyu-rc0201-51-rohs-l-8-28419660.pdf?src-supplier=Avnet+Europe; ComponentLink6URL: https://datasheet.ciiva.com/16855/pyu-rc0201-51-rohs-l-8-16855994.pdf?src-supplier=Avnet+Europe; ComponentLink6Description: https://datasheet.ciiva.com/16855/pyu-rc0201-51-rohs-l-8-16855994.pdf?src-supplier=Avnet+Europe; ComponentLink7URL: https://datasheet.ciiva.com/46391/1421516-46391340.pdf?src-supplier=Element14; ComponentLink7Description: https://datasheet.ciiva.com/46391/1421516-46391340.pdf?src-supplier=Element14; Supplier Part Number 1: 311-0.0NCT-ND
footprint RESC0603X03N - 0201 (Chip Resistor, 2-Leads, Body 0/60x0/30mm, IPC Medium Density)
footprint RESC0603X03M - 0201 (Chip Resistor, 2-Leads, Body 0/60x0/30mm, IPC Low Density)
footprint RESC0603X03L - 0201 (Chip Resistor, 2-Leads, Body 0/60x0/30mm, IPC High Density)
pins: 1, 2

## RES_0R-0.25W-1206
designator R?, comment 0
RES SMD 0 OHM JUMPER 1/4W 1206; Manufacturer: Yageo; Manufacturer Part Number: RC1206JR-070RL; Power Rating: 250mW; Tolerance: 5%; Voltage Rating: 200V; Resistance: 0mR; Temperature Coefficient: 200ppm/°C; Supplier 1: Digi-Key; RoHS: Yes; Category: Chip SMD Resistors; Stock 1: 2984274; Pricing 1: 1=0/10000, 10=0/05500, 25=0/04000, 50=0/03040, 100=0/02240, 250=0/01712, 500=0/01368, 1000=0/01007 (USD); Case/Package: 1206; Case Code (Metric): 3216; Case Code (Imperial): 1206; Contact Plating: Tin,Matte; Size Code: 1206; Min Operating Temperature: -55°C; Max Operating Temperature: 155°C; Resistor Type: Thick Film,Carbon Film; Packaging: Tape and Reel; Package Quantity: 5000; Number of Terminations: 2; Termination: SMD/SMT; Max Power Dissipation: 250mW; Series: RC1206; Resistance Tolerance: 5%; Construction: Rectangular; Technology: THICK FILM; Length: 3.1mm; Width: 0.063inch; Height: 0.026inch; Depth: 1.6mm; Radiation Hardening: No; REACH SVHC: Unknown; Military Standard: Not; Lead Free: Lead Free; RoHS Compliant: Yes; ComponentLink1URL: https://datasheet.ciiva.com/11808/0900766b80c6630a-11808156.pdf?src-supplier=RSComponents; ComponentLink1Description: https://datasheet.ciiva.com/11808/0900766b80c6630a-11808156.pdf?src-supplier=RSComponents; ComponentLink2URL: https://datasheet.ciiva.com/29181/402222-da-01-en-smd-widerstand-0-ohm-1206-29181568.pdf?src-supplier=Conrad; ComponentLink2Description: https://datasheet.ciiva.com/29181/402222-da-01-en-smd-widerstand-0-ohm-1206-29181568.pdf?src-supplier=Conrad; ComponentLink3URL: https://datasheet.ciiva.com/7983/444357-7983807.pdf?src-supplier=Element14; ComponentLink3Description: https://datasheet.ciiva.com/7983/444357-7983807.pdf?src-supplier=Element14; ComponentLink4URL: https://datasheet.ciiva.com/22747/1692832-22747541.pdf?src-supplier=Element14; ComponentLink4Description: https://datasheet.ciiva.com/22747/1692832-22747541.pdf?src-supplier=Element14; ComponentLink5URL: https://datasheet.ciiva.com/46445/444357-46445719.pdf?src-supplier=Element14; ComponentLink5Description: https://datasheet.ciiva.com/46445/444357-46445719.pdf?src-supplier=Element14; ComponentLink6URL: https://datasheet.ciiva.com/2458/pyu-rc1206-51-rohs-l-4-2458669.pdf?src-supplier=Digi-Key; ComponentLink6Description: https://datasheet.ciiva.com/2458/pyu-rc1206-51-rohs-l-4-2458669.pdf?src-supplier=Digi-Key; ComponentLink7URL: https://datasheet.ciiva.com/2458/pyu-rc1206-51-rohs-l-4-2458670.pdf?src-supplier=Digi-Key; ComponentLink7Description: https://datasheet.ciiva.com/2458/pyu-rc1206-51-rohs-l-4-2458670.pdf?src-supplier=Digi-Key; ComponentLink8URL: https://datasheet.ciiva.com/2458/pyu-rc1206-51-rohs-l-4-2458668.pdf?src-supplier=Digi-Key; ComponentLink8Description: https://datasheet.ciiva.com/2458/pyu-rc1206-51-rohs-l-4-2458668.pdf?src-supplier=Digi-Key; ComponentLink9URL: https://datasheet.ciiva.com/7857/1692832-7857422.pdf?src-supplier=Element14; ComponentLink9Description: https://datasheet.ciiva.com/7857/1692832-7857422.pdf?src-supplier=Element14; ComponentLink10URL: https://datasheet.ciiva.com/7857/1692832-7857421.pdf?src-supplier=Element14; ComponentLink10Description: https://datasheet.ciiva.com/7857/1692832-7857421.pdf?src-supplier=Element14; ComponentLink11URL: https://datasheet.ciiva.com/17035/pyu-rc1206-51-rohs-l-4-17035512.pdf?src-supplier=Future+Electronics; ComponentLink11Description: https://datasheet.ciiva.com/17035/pyu-rc1206-51-rohs-l-4-17035512.pdf?src-supplier=Future+Electronics; Supplier Part Number 1: 311-0.0ERCT-ND
footprint RESC3116X06N - 1206 (Chip Resistor, 2-Leads, Body 3/10x1/60mm, IPC Medium Density)
footprint RESC3116X06M - 1206 (Chip Resistor, 2-Leads, Body 3/10x1/60mm, IPC Low Density)
footprint RESC3116X06L - 1206 (Chip Resistor, 2-Leads, Body 3/10x1/60mm, IPC High Density)
pins: 1, 2

## RES_0R-0.063W-0402
designator R?, comment 0
Res Jumper Thick Film 0402 0 Ohm 5% 1/16W Molded SMD Paper T/R; Manufacturer: Yageo; Manufacturer Part Number: RC0402JR-070RL; Resistance: 0mR; Power Rating: 62.5mW; Voltage Rating: 50V; Max Power Dissipation: 63mW; Temperature Coefficient: 200ppm/°C; Supplier 1: Digi-Key; RoHS: Yes; Category: Chip SMD Resistors; Stock 1: 33057433; Pricing 1: 1=0/10000, 10=0/01200, 25=0/00840, 50=0/00640, 100=0/00470, 250=0/00360, 500=0/00288, 1000=0/00212, 5000=0/00152 (USD); Case/Package: 0402; Contact Plating: Tin,Matte; Case Code (Metric): 1005; Case Code (Imperial): 0402; Size Code: 0402; Min Operating Temperature: -55°C; Max Operating Temperature: 155°C; Packaging: Tape and Reel; Tolerance: 5%; Resistor Type: Thick Film; Package Quantity: 1; Number of Terminations: 2; Termination: SMD/SMT; Features: Moisture Resistant; Series: RC; Technology: THICK FILM; Resistance Tolerance: 5%; Construction: Rectangular; Length: 1mm; Width: 0.02inch; Height: 0.016inch; Depth: 0.5mm; Radiation Hardening: No; REACH SVHC: Unknown; Lead Free: Lead Free; Military Standard: Not; RoHS Compliant: Yes; Supplier Part Number 1: 311-0.0JRCT-ND
footprint RESC1005X04N - 0402 (Chip Resistor, 2-Leads, Body 1/00x0/50mm, IPC Medium Density)
footprint RESC1005X04M - 0402 (Chip Resistor, 2-Leads, Body 1/00x0/50mm, IPC Low Density)
footprint RESC1005X04L - 0402 (Chip Resistor, 2-Leads, Body 1/00x0/50mm, IPC High Density)
pins: 1, 2

## RES_0R-0.75W-2010
designator R?, comment 0
RC Series 2010 0.75 W 0 Ohm Jumper Surface Mount Thick Film Chip Resistor; Manufacturer: Yageo; Manufacturer Part Number: RC2010JK-070RL; Tolerance: 5%; Resistance: 0mR; Power Rating: 750mW; Voltage Rating: 200V; Temperature Coefficient: 200ppm/°C; Supplier 1: Digi-Key; RoHS: Yes; Category: Chip SMD Resistors; Stock 1: 495838; Pricing 1: 1=0/19000, 10=0/16000, 25=0/11640, 50=0/08440, 100=0/06250, 250=0/04800, 500=0/03780, 1000=0/02617 (USD); Case/Package: 2010; Case Code (Imperial): 2010; Case Code (Metric): 5025; Contact Plating: Tin,Matte; Size Code: 2010; Min Operating Temperature: -55°C; Max Operating Temperature: 155°C; Packaging: Tape and Reel; Resistor Type: Thick Film; Number of Terminations: 2; Termination: SMD/SMT; Max Power Dissipation: 750mW; Features: Moisture Resistant; Series: RC; Resistance Tolerance: 5%; Construction: Rectangular; Length: 0.197inch; Width: 0.098inch; Height: 0.026inch; Depth: 2.5mm; Radiation Hardening: No; REACH SVHC: Unknown; Military Standard: Not; Lead Free: Lead Free; RoHS Compliant: Yes; ComponentLink1URL: https://datasheet.ciiva.com/12668/pyu-rc2010-51-rohs-l-4-12668238.pdf?src-supplier=Mouser; ComponentLink1Description: https://datasheet.ciiva.com/12668/pyu-rc2010-51-rohs-l-4-12668238.pdf?src-supplier=Mouser; ComponentLink2URL: https://datasheet.ciiva.com/7672/1563630-7672361.pdf?src-supplier=Element14; ComponentLink2Description: https://datasheet.ciiva.com/7672/1563630-7672361.pdf?src-supplier=Element14; ComponentLink3URL: https://datasheet.ciiva.com/7672/1563630-7672362.pdf?src-supplier=Element14; ComponentLink3Description: https://datasheet.ciiva.com/7672/1563630-7672362.pdf?src-supplier=Element14; Supplier Part Number 1: YAG3380CT-ND
footprint RESC5025X06N - 2010 (Chip Resistor, 2-Leads, Body 5/00x2/50mm, IPC Medium Density)
footprint RESC5025X06M - 2010 (Chip Resistor, 2-Leads, Body 5/00x2/50mm, IPC Low Density)
footprint RESC5025X06L - 2010 (Chip Resistor, 2-Leads, Body 5/00x2/50mm, IPC High Density)
pins: 1, 2